# Altium footprint library PCB - CONNECTOR - MOLEX - MOLEX 1053091106.PcbLib: 1 footprints
Each footprint in its own frame and in the unit in brackets; x right, y up, seen from the top. Pads: shape width x height; smd on the part's side, far side on the other; paste and mask are expansions set on the pad; w line width, h text height; cw(c..) or ccw(c..) is an arc to the next point about the centre after c.
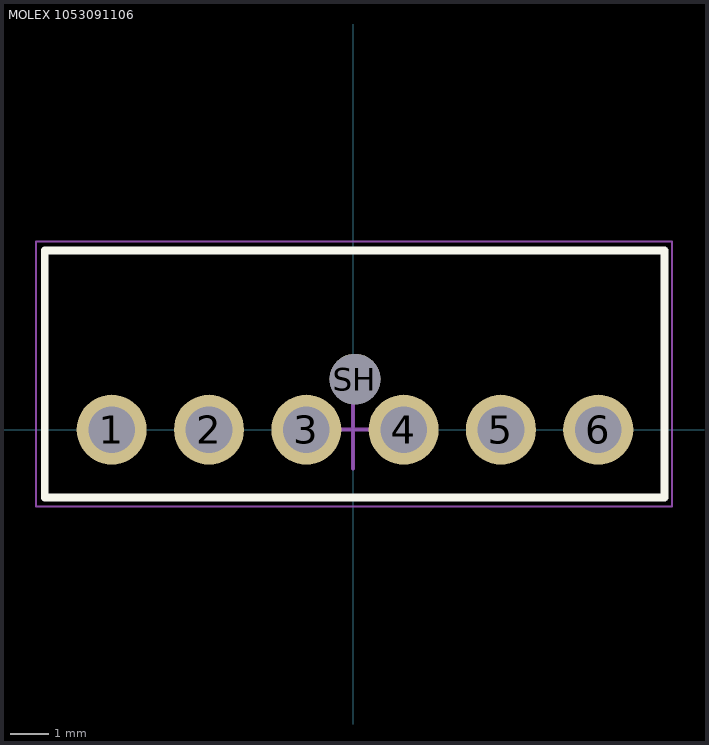
[diagram p0: the footprint, top view; thin cyan lines are the x and y axes]

## MOLEX 1053091106 [mm] "Connector Header Through Hole 6 position, 2mm Pitch, 15.92x6.34 mm Body"
height 10.51
pads (7):
  round 1.8 hole 1.2: 1(-6.2,0) 2(-3.7,0) 3(-1.2,0) 4(1.3,0) 5(3.8,0) 6(6.3,0)
  round 1.3 hole 1.3: SH(0.05,1.3)
Top Overlay:
  lines w0.2: -7.92,-1.74 -7.92,4.6 8,4.6 8,-1.74 -7.92,-1.74
Mechanical 13:
  lines w0.1: -7.92,-1.74 -7.92,4.6 8,4.6 8,-1.74 -7.92,-1.74
Mechanical 15 (Mech15):
  lines w0.05: -8.15,-1.97 -8.15,4.83 8.2,4.83 8.2,-1.97 -8.15,-1.97
  lines w0.1: -1,0 0,0 ; 0,-1 0,0 ; 0,1 0,0 ; 1,0 0,0
3D body: height 10.51, standoff -3.2, extent -7.97,-1.74 7.97,4.6